# EAGLE library part MCP4726 (library misc)
8-/10-/12-Bit Voltage Output Digital-to-Analog Converter with EEPROM and I2C Interface
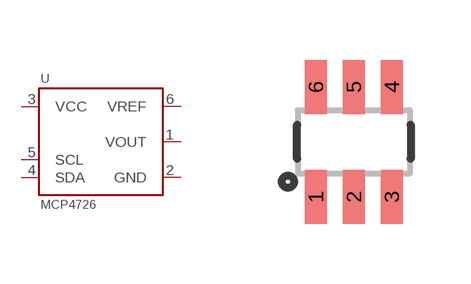
[diagram p1: symbol with the pads of SOT-23-6; footprint SOT-23-6]

Designator prefix U

## MCP4726  [SOT-23-6]
1  VOUT
2  GND
3  VCC
4  SDA
5  SCL
6  VREF

## Footprint SOT-23-6 (pad centres in mm)
smd 0.55 x 1.35: 1 -0.95,-1.375; 2 0,-1.375; 3 0.95,-1.375; 4 0.95,1.375; 5 0,1.375; 6 -0.95,1.375